# Altium integrated library Diodes - TVS.IntLib: 5379 symbols (part 105 of 122)
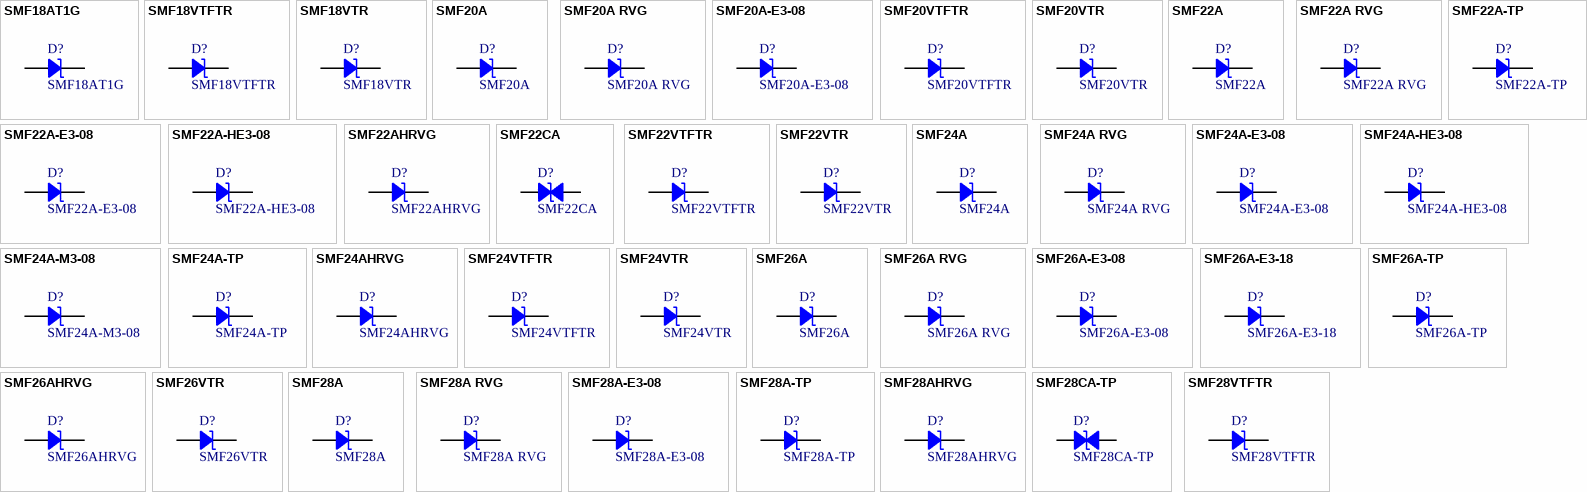
[diagram p238: symbols SMF18AT1G to SMF28VTFTR]

## SMF24A-E3-08
designator D?
TVS DIODE 24V 38.9V SMF; Manufacturer: Vishay Semiconductor Diodes Division; Capacitance @ Frequency: 244pF @ 1MHz; Current - Peak Pulse (10/1000µs): 5.1A; Power Line Protection: No; Power - Peak Pulse: 200W; Type: Zener; Unidirectional Channels: 1; Voltage - Breakdown (Min): 26.7V; Part Number: SMF24A-E3-08; Applications: General Purpose; ComponentLink1Description: Datasheet; ComponentLink1URL: http://www.vishay.com/docs/85881/smf5v0atosmf58a.pdf; ComponentLink2Description: DigiKey Link; ComponentLink2URL: http://digikey.com/product-detail/en/vishay-semiconductor-diodes-division/SMF24A-E3-08/SMF24A-E3-08CT-ND/1680633; LastUpdated: 9/2/2020 1:27:46 AM; Lifecycle Status: Active; Minimum Order: 1; Mounting Type: Surface Mount; Operating Temperature: -65°C ~ 175°C (TJ); Package / Case: DO-219AB; Packaging: TapeAndReel; PartId: 5546; Part Status: Active; Price: 0.10; Series: -; Supplier 1: DigiKey; Supplier Part Number 1: SMF24A-E3-08CT-ND; Supplier Device Package: SMF; Voltage - Clamping (Max) @ Ipp: 38.9V; Voltage - Reverse Standoff (Typ): 24V
footprint SMF DO-219AB
pins: 1, 2

## SMF24A-HE3-08
designator D?
TVS DIODE 24V 38.9V DO219AB; Manufacturer: Vishay Semiconductor Diodes Division; Capacitance @ Frequency: 244pF @ 1MHz; Current - Peak Pulse (10/1000µs): 5.1A; Power Line Protection: No; Power - Peak Pulse: 200W; Type: Zener; Unidirectional Channels: 1; Voltage - Breakdown (Min): 26.7V; Part Number: SMF24A-HE3-08; Applications: Automotive; ComponentLink1Description: Datasheet; ComponentLink1URL: http://www.vishay.com/docs/85881/smf5v0atosmf58a.pdf; ComponentLink2Description: DigiKey Link; ComponentLink2URL: http://digikey.com/product-detail/en/vishay-semiconductor-diodes-division/SMF24A-HE3-08/SMF24A-HE3-08GICT-ND/9601158; LastUpdated: 9/2/2020 1:27:45 AM; Lifecycle Status: Active; Minimum Order: 1; Mounting Type: Surface Mount; Operating Temperature: -65°C ~ 175°C (TJ); Package / Case: DO-219AB; Packaging: TapeAndReel; PartId: 5518; Part Status: Active; Price: 0.11; Series: Automotive, AEC-Q101; Supplier 1: DigiKey; Supplier Part Number 1: SMF24A-HE3-08GICT-ND; Supplier Device Package: DO-219AB (SMF); Voltage - Clamping (Max) @ Ipp: 38.9V; Voltage - Reverse Standoff (Typ): 24V
footprint SMF DO-219AB
pins: 1, 2

## SMF24A-M3-08
designator D?
TVS DIODE 24V 38.9V DO219AB; Manufacturer: Vishay Semiconductor Diodes Division; Capacitance @ Frequency: 244pF @ 1MHz; Current - Peak Pulse (10/1000µs): 5.1A; Power Line Protection: No; Power - Peak Pulse: 200W; Type: Zener; Unidirectional Channels: 1; Voltage - Breakdown (Min): 26.7V; Part Number: SMF24A-M3-08; Applications: General Purpose; ComponentLink1Description: Datasheet; ComponentLink1URL: http://www.vishay.com/docs/85881/smf5v0atosmf58a.pdf; ComponentLink2Description: DigiKey Link; ComponentLink2URL: http://digikey.com/product-detail/en/vishay-semiconductor-diodes-division/SMF24A-M3-08/SMF24A-M3-08GICT-ND/9601159; LastUpdated: 9/2/2020 1:27:45 AM; Lifecycle Status: Active; Minimum Order: 1; Mounting Type: Surface Mount; Operating Temperature: -65°C ~ 175°C (TJ); Package / Case: DO-219AB; Packaging: TapeAndReel; PartId: 5521; Part Status: Active; Price: 0.10; Series: -; Supplier 1: DigiKey; Supplier Part Number 1: SMF24A-M3-08GICT-ND; Supplier Device Package: SMF (DO-219AB); Voltage - Clamping (Max) @ Ipp: 38.9V; Voltage - Reverse Standoff (Typ): 24V
footprint SMF DO-219AB
pins: 1, 2

## SMF24A-TP
designator D?
TVS DIODE 24V 38.9V SOD123FL; Manufacturer: Micro Commercial Co; Current - Peak Pulse (10/1000µs): 5.1A; Power Line Protection: No; Power - Peak Pulse: 200W; Type: Zener; Unidirectional Channels: 1; Voltage - Breakdown (Min): 26.7V; Part Number: SMF24A-TP; Applications: General Purpose; ComponentLink1Description: Datasheet; ComponentLink1URL: https://www.mccsemi.com/pdf/Products/SMF5.0-170(SOD-123FL)-F.pdf; ComponentLink2Description: DigiKey Link; ComponentLink2URL: http://digikey.com/product-detail/en/micro-commercial-co/SMF24A-TP/SMF24A-TPMSCT-ND/5114019; LastUpdated: 9/2/2020 1:28:37 AM; Lifecycle Status: Active; Minimum Order: 1; Mounting Type: Surface Mount; Operating Temperature: -65°C ~ 175°C (TA); Package / Case: SOD-123F; Packaging: TapeAndReel; PartId: 10176; Part Status: Active; Price: 0.09; Series: -; Supplier 1: DigiKey; Supplier Part Number 1: SMF24A-TPMSCT-ND; Supplier Device Package: SOD-123FL; Voltage - Clamping (Max) @ Ipp: 38.9V; Voltage - Reverse Standoff (Typ): 24V
footprint SOD123F
pins: 1, 2

## SMF24AHRVG
designator D?
DIODE, TVS, UNIDIRECTIONAL; Manufacturer: Taiwan Semiconductor Corporation; Current - Peak Pulse (10/1000µs): 5.1A; Power Line Protection: No; Power - Peak Pulse: 200W; Type: Zener; Unidirectional Channels: 1; Voltage - Breakdown (Min): 26.7V; Voltage - Clamping (Max) @ Ipp: 38.9V; Voltage - Reverse Standoff (Typ): 24V; Part Number: SMF24AHRVG; Applications: Automotive; ComponentLink1Description: Datasheet; ComponentLink1URL: https://www.taiwansemi.com/products/datasheet/SMF5.0A%20SERIES_B1709.pdf; ComponentLink2Description: DigiKey Link; ComponentLink2URL: http://digikey.com/product-detail/en/taiwan-semiconductor-corporation/SMF24AHRVG/SMF24AHRVGCT-ND/8600422; LastUpdated: 9/2/2020 1:28:40 AM; Lifecycle Status: Active; Minimum Order: 1; Mounting Type: Surface Mount; Operating Temperature: -55°C ~ 175°C (TJ); Package / Case: SOD-123W; Packaging: TapeAndReel; PartId: 10300; Part Status: Active; Price: 0.09; Series: Automotive, AEC-Q101; Supplier 1: DigiKey; Supplier Part Number 1: SMF24AHRVGCT-ND; Supplier Device Package: SOD-123W
footprint SOD-123W
pins: 1, 2

## SMF24VTFTR
designator D?
SMF24VTF IS A TRANSIENT VOLTAGE; Manufacturer: Rohm Semiconductor; Current - Peak Pulse (10/1000µs): 5.1A; Power Line Protection: No; Power - Peak Pulse: 200W; Type: Zener; Unidirectional Channels: 1; Voltage - Breakdown (Min): 26.7V; Voltage - Clamping (Max) @ Ipp: 38.9V; Voltage - Reverse Standoff (Typ): 24V; Part Number: SMF24VTFTR; Applications: Automotive; ComponentLink1Description: Datasheet; ComponentLink1URL: https://www.rohm.com/datasheet/SMF24VTF/smf24vtftr-e; ComponentLink2Description: DigiKey Link; ComponentLink2URL: http://digikey.com/product-detail/en/rohm-semiconductor/SMF24VTFTR/SMF24VTFCT-ND/9748288; LastUpdated: 9/2/2020 1:28:36 AM; Lifecycle Status: Active; Minimum Order: 1; Mounting Type: Surface Mount; Operating Temperature: 150°C (TJ); Package / Case: SOD-123F; Packaging: TapeAndReel; PartId: 10042; Part Status: Active; Price: 0.11; Series: Automotive, AEC-Q101; Supplier 1: DigiKey; Supplier Part Number 1: SMF24VTFCT-ND; Supplier Device Package: PMDU
footprint SOD123F
pins: 1, 2

## SMF24VTR
designator D?
TRANSIENT VOLTAGE SUPPRESSOR - S; Manufacturer: Rohm Semiconductor; Current - Peak Pulse (10/1000µs): 5.1A; Power Line Protection: No; Power - Peak Pulse: 200W; Type: Zener; Unidirectional Channels: 1; Voltage - Breakdown (Min): 26.7V; Voltage - Clamping (Max) @ Ipp: 38.9V; Voltage - Reverse Standoff (Typ): 24V (Max); Part Number: SMF24VTR; Applications: General Purpose; ComponentLink1Description: Datasheet; ComponentLink1URL: https://www.rohm.com/datasheet/SMF33V/smf33vtr-e; ComponentLink2Description: DigiKey Link; ComponentLink2URL: http://digikey.com/product-detail/en/rohm-semiconductor/SMF24VTR/846-SMF24VCT-ND/10709507; LastUpdated: 9/2/2020 1:28:36 AM; Lifecycle Status: Active; Minimum Order: 1; Mounting Type: Surface Mount; Operating Temperature: 150°C (TJ); Package / Case: SOD-123F; Packaging: Unknown; PartId: 10065; Part Status: Active; Price: 0.06; Series: -; Supplier 1: DigiKey; Supplier Part Number 1: 846-SMF24VCT-ND; Supplier Device Package: PMDU
footprint SOD123F
pins: 1, 2

## SMF26A
designator D?
TVS DIODE 26V 42.1V SOD123F; Manufacturer: Littelfuse Inc.; Current - Peak Pulse (10/1000µs): 4.8A; Power Line Protection: No; Power - Peak Pulse: 200W; Type: Zener; Unidirectional Channels: 1; Voltage - Breakdown (Min): 28.9V; Part Number: SMF26A; Applications: General Purpose; ComponentLink1Description: Datasheet; ComponentLink1URL: https://www.littelfuse.com/~/media/electronics/datasheets/tvs_diodes/littelfuse_tvs_diode_smf_datasheet.pdf.pdf; ComponentLink2Description: DigiKey Link; ComponentLink2URL: http://digikey.com/product-detail/en/littelfuse-inc/SMF26A/F5824CT-ND/3672314; LastUpdated: 9/2/2020 1:28:37 AM; Lifecycle Status: Active; Minimum Order: 1; Mounting Type: Surface Mount; Operating Temperature: -55°C ~ 150°C (TJ); Package / Case: SOD-123F; Packaging: TapeAndReel; PartId: 10216; Part Status: Active; Price: 0.11; Series: SMF; Supplier 1: DigiKey; Supplier Part Number 1: F5824CT-ND; Supplier Device Package: SOD-123F; Voltage - Clamping (Max) @ Ipp: 42.1V; Voltage - Reverse Standoff (Typ): 26V
footprint SOD123F
pins: 1, 2

## SMF26A RVG
designator D?
DIODE, TVS, UNIDIRECTIONAL; Manufacturer: Taiwan Semiconductor Corporation; Current - Peak Pulse (10/1000µs): 4.8A; Power Line Protection: No; Power - Peak Pulse: 200W; Type: Zener; Unidirectional Channels: 1; Voltage - Breakdown (Min): 28.9V; Voltage - Clamping (Max) @ Ipp: 42.1V; Voltage - Reverse Standoff (Typ): 26V; Part Number: SMF26A RVG; Applications: General Purpose; ComponentLink1Description: Datasheet; ComponentLink1URL: https://www.taiwansemi.com/products/datasheet/SMF5.0A%20SERIES_B1709.pdf; ComponentLink2Description: DigiKey Link; ComponentLink2URL: http://digikey.com/product-detail/en/taiwan-semiconductor-corporation/SMF26A-RVG/SMF26ARVGCT-ND/8600423; LastUpdated: 9/2/2020 1:28:40 AM; Lifecycle Status: Active; Minimum Order: 1; Mounting Type: Surface Mount; Operating Temperature: -55°C ~ 175°C (TJ); Package / Case: SOD-123W; Packaging: TapeAndReel; PartId: 10315; Part Status: Active; Price: 0.08; Series: -; Supplier 1: DigiKey; Supplier Part Number 1: SMF26ARVGCT-ND; Supplier Device Package: SOD-123W
footprint SOD-123W
pins: 1, 2

## SMF26A-E3-08
designator D?
TVS DIODE 26V 42.1V DO219AB; Manufacturer: Vishay Semiconductor Diodes Division; Capacitance @ Frequency: 230pF @ 1MHz; Current - Peak Pulse (10/1000µs): 4.8A; Power Line Protection: No; Power - Peak Pulse: 200W; Type: Zener; Unidirectional Channels: 1; Voltage - Breakdown (Min): 28.9V; Part Number: SMF26A-E3-08; Applications: General Purpose; ComponentLink1Description: Datasheet; ComponentLink1URL: http://www.vishay.com/docs/85881/smf5v0atosmf58a.pdf; ComponentLink2Description: DigiKey Link; ComponentLink2URL: http://digikey.com/product-detail/en/vishay-semiconductor-diodes-division/SMF26A-E3-08/SMF26A-E3-08GICT-ND/5639177; LastUpdated: 9/2/2020 1:27:45 AM; Lifecycle Status: Active; Minimum Order: 1; Mounting Type: Surface Mount; Operating Temperature: -65°C ~ 175°C (TJ); Package / Case: DO-219AB; Packaging: TapeAndReel; PartId: 5512; Part Status: Active; Price: 0.10; Series: -; Supplier 1: DigiKey; Supplier Part Number 1: SMF26A-E3-08GICT-ND; Supplier Device Package: SMF; Voltage - Clamping (Max) @ Ipp: 42.1V; Voltage - Reverse Standoff (Typ): 26V
footprint SMF DO-219AB
pins: 1, 2

## SMF26A-E3-18
designator D?
TVS DIODE 26V 42.1V DO219AB; Manufacturer: Vishay Semiconductor Diodes Division; Capacitance @ Frequency: 230pF @ 1MHz; Current - Peak Pulse (10/1000µs): 4.8A; Power Line Protection: No; Power - Peak Pulse: 200W; Type: Zener; Unidirectional Channels: 1; Voltage - Breakdown (Min): 28.9V; Part Number: SMF26A-E3-18; Applications: General Purpose; ComponentLink1Description: Datasheet; ComponentLink1URL: http://www.vishay.com/docs/85881/smf5v0atosmf58a.pdf; ComponentLink2Description: DigiKey Link; ComponentLink2URL: http://digikey.com/product-detail/en/vishay-semiconductor-diodes-division/SMF26A-E3-18/SMF26A-E3-18GICT-ND/5639178; LastUpdated: 9/2/2020 1:27:46 AM; Lifecycle Status: Active; Minimum Order: 1; Mounting Type: Surface Mount; Operating Temperature: -65°C ~ 175°C (TJ); Package / Case: DO-219AB; Packaging: TapeAndReel; PartId: 5529; Part Status: Active; Price: 0.07; Series: -; Supplier 1: DigiKey; Supplier Part Number 1: SMF26A-E3-18GICT-ND; Supplier Device Package: SMF (DO-219AB); Voltage - Clamping (Max) @ Ipp: 42.1V; Voltage - Reverse Standoff (Typ): 26V
footprint SMF DO-219AB
pins: 1, 2

## SMF26A-TP
designator D?
TVS DIODE 26V 42.1V SOD123FL; Manufacturer: Micro Commercial Co; Current - Peak Pulse (10/1000µs): 4.8A; Power Line Protection: No; Power - Peak Pulse: 200W; Type: Zener; Unidirectional Channels: 1; Voltage - Breakdown (Min): 28.9V; Part Number: SMF26A-TP; Applications: General Purpose; ComponentLink1Description: Datasheet; ComponentLink1URL: https://www.mccsemi.com/pdf/Products/SMF5.0-170(SOD-123FL)-V2.pdf; ComponentLink2Description: DigiKey Link; ComponentLink2URL: http://digikey.com/product-detail/en/micro-commercial-co/SMF26A-TP/SMF26A-TPMSCT-ND/2268363; LastUpdated: 9/2/2020 1:28:37 AM; Lifecycle Status: Active; Minimum Order: 1; Mounting Type: Surface Mount; Operating Temperature: -65°C ~ 175°C (TA); Package / Case: SOD-123F; Packaging: TapeAndReel; PartId: 10181; Part Status: Active; Price: 0.09; Series: -; Supplier 1: DigiKey; Supplier Part Number 1: SMF26A-TPMSCT-ND; Supplier Device Package: SOD-123FL; Voltage - Clamping (Max) @ Ipp: 42.1V; Voltage - Reverse Standoff (Typ): 26V
footprint SOD123F
pins: 1, 2

## SMF26AHRVG
designator D?
DIODE, TVS, UNIDIRECTIONAL; Manufacturer: Taiwan Semiconductor Corporation; Current - Peak Pulse (10/1000µs): 4.8A; Power Line Protection: No; Power - Peak Pulse: 200W; Type: Zener; Unidirectional Channels: 1; Voltage - Breakdown (Min): 28.9V; Voltage - Clamping (Max) @ Ipp: 42.1V; Voltage - Reverse Standoff (Typ): 26V; Part Number: SMF26AHRVG; Applications: Automotive; ComponentLink1Description: Datasheet; ComponentLink1URL: https://www.taiwansemi.com/products/datasheet/SMF5.0A%20SERIES_B1709.pdf; ComponentLink2Description: DigiKey Link; ComponentLink2URL: http://digikey.com/product-detail/en/taiwan-semiconductor-corporation/SMF26AHRVG/SMF26AHRVGCT-ND/8600424; LastUpdated: 9/2/2020 1:28:40 AM; Lifecycle Status: Active; Minimum Order: 1; Mounting Type: Surface Mount; Operating Temperature: -55°C ~ 175°C (TJ); Package / Case: SOD-123W; Packaging: TapeAndReel; PartId: 10299; Part Status: Active; Price: 0.09; Series: Automotive, AEC-Q101; Supplier 1: DigiKey; Supplier Part Number 1: SMF26AHRVGCT-ND; Supplier Device Package: SOD-123W
footprint SOD-123W
pins: 1, 2

## SMF26VTR
designator D?
TRANSIENT VOLTAGE SUPPRESSOR - S; Manufacturer: Rohm Semiconductor; Current - Peak Pulse (10/1000µs): 4.8A; Power Line Protection: No; Power - Peak Pulse: 200W; Type: Zener; Unidirectional Channels: 1; Voltage - Breakdown (Min): 28.9V; Voltage - Clamping (Max) @ Ipp: 42.1V; Voltage - Reverse Standoff (Typ): 26V (Max); Part Number: SMF26VTR; Applications: General Purpose; ComponentLink1Description: Datasheet; ComponentLink1URL: https://www.rohm.com/datasheet/SMF5V0/smf5v0tr-e; ComponentLink2Description: DigiKey Link; ComponentLink2URL: http://digikey.com/product-detail/en/rohm-semiconductor/SMF26VTR/846-SMF26VCT-ND/10709513; LastUpdated: 9/2/2020 1:28:36 AM; Lifecycle Status: Active; Minimum Order: 1; Mounting Type: Surface Mount; Operating Temperature: 150°C (TJ); Package / Case: SOD-123F; Packaging: Unknown; PartId: 10063; Part Status: Active; Price: 0.06; Series: -; Supplier 1: DigiKey; Supplier Part Number 1: 846-SMF26VCT-ND; Supplier Device Package: PMDU
footprint SOD123F
pins: 1, 2

## SMF28A
designator D?
TVS DIODE 28V 45.4V SOD123F; Manufacturer: Littelfuse Inc.; Current - Peak Pulse (10/1000µs): 4.4A; Power Line Protection: No; Power - Peak Pulse: 200W; Type: Zener; Unidirectional Channels: 1; Voltage - Breakdown (Min): 31.1V; Part Number: SMF28A; Applications: General Purpose; ComponentLink1Description: Datasheet; ComponentLink1URL: https://www.littelfuse.com/~/media/electronics/datasheets/tvs_diodes/littelfuse_tvs_diode_smf_datasheet.pdf.pdf; ComponentLink2Description: DigiKey Link; ComponentLink2URL: http://digikey.com/product-detail/en/littelfuse-inc/SMF28A/F5825CT-ND/3672315; LastUpdated: 9/2/2020 1:28:36 AM; Lifecycle Status: Active; Minimum Order: 1; Mounting Type: Surface Mount; Operating Temperature: -55°C ~ 150°C (TJ); Package / Case: SOD-123F; Packaging: TapeAndReel; PartId: 10091; Part Status: Active; Price: 0.11; Series: SMF; Supplier 1: DigiKey; Supplier Part Number 1: F5825CT-ND; Supplier Device Package: SOD-123F; Voltage - Clamping (Max) @ Ipp: 45.4V; Voltage - Reverse Standoff (Typ): 28V
footprint SOD123F
pins: 1, 2

## SMF28A RVG
designator D?
DIODE, TVS, UNIDIRECTIONAL; Manufacturer: Taiwan Semiconductor Corporation; Current - Peak Pulse (10/1000µs): 4.4A; Power Line Protection: No; Power - Peak Pulse: 200W; Type: Zener; Unidirectional Channels: 1; Voltage - Breakdown (Min): 31.1V; Voltage - Clamping (Max) @ Ipp: 45.4V; Voltage - Reverse Standoff (Typ): 28V; Part Number: SMF28A RVG; Applications: General Purpose; ComponentLink1Description: Datasheet; ComponentLink1URL: https://www.taiwansemi.com/products/datasheet/SMF5.0A%20SERIES_B1709.pdf; ComponentLink2Description: DigiKey Link; ComponentLink2URL: http://digikey.com/product-detail/en/taiwan-semiconductor-corporation/SMF28A-RVG/SMF28ARVGCT-ND/8600425; LastUpdated: 9/2/2020 1:28:40 AM; Lifecycle Status: Active; Minimum Order: 1; Mounting Type: Surface Mount; Operating Temperature: -55°C ~ 175°C (TJ); Package / Case: SOD-123W; Packaging: TapeAndReel; PartId: 10345; Part Status: Active; Price: 0.08; Series: -; Supplier 1: DigiKey; Supplier Part Number 1: SMF28ARVGCT-ND; Supplier Device Package: SOD-123W
footprint SOD-123W
pins: 1, 2

## SMF28A-E3-08
designator D?
TVS DIODE 28V 45.4V DO219AB; Manufacturer: Vishay Semiconductor Diodes Division; Capacitance @ Frequency: 227pF @ 1MHz; Current - Peak Pulse (10/1000µs): 4.4A; Power Line Protection: No; Power - Peak Pulse: 200W; Type: Zener; Unidirectional Channels: 1; Voltage - Breakdown (Min): 31.1V; Part Number: SMF28A-E3-08; Applications: General Purpose; ComponentLink1Description: Datasheet; ComponentLink1URL: http://www.vishay.com/docs/85881/smf5v0atosmf58a.pdf; ComponentLink2Description: DigiKey Link; ComponentLink2URL: http://digikey.com/product-detail/en/vishay-semiconductor-diodes-division/SMF28A-E3-08/SMF28A-E3-08GICT-ND/5639179; LastUpdated: 9/2/2020 1:27:46 AM; Lifecycle Status: Active; Minimum Order: 1; Mounting Type: Surface Mount; Operating Temperature: -65°C ~ 175°C (TJ); Package / Case: DO-219AB; Packaging: TapeAndReel; PartId: 5538; Part Status: Active; Price: 0.10; Series: -; Supplier 1: DigiKey; Supplier Part Number 1: SMF28A-E3-08GICT-ND; Supplier Device Package: SMF; Voltage - Clamping (Max) @ Ipp: 45.4V; Voltage - Reverse Standoff (Typ): 28V
footprint SMF DO-219AB
pins: 1, 2

## SMF28A-TP
designator D?
TVS DIODE 28V 45.4V SOD123FL; Manufacturer: Micro Commercial Co; Current - Peak Pulse (10/1000µs): 4.4A; Power Line Protection: No; Power - Peak Pulse: 200W; Type: Zener; Unidirectional Channels: 1; Voltage - Breakdown (Min): 31.1V; Part Number: SMF28A-TP; Applications: General Purpose; ComponentLink1Description: Datasheet; ComponentLink1URL: https://www.mccsemi.com/pdf/Products/SMF5.0-170(SOD-123FL)-V2.pdf; ComponentLink2Description: DigiKey Link; ComponentLink2URL: http://digikey.com/product-detail/en/micro-commercial-co/SMF28A-TP/SMF28A-TPMSCT-ND/5114020; LastUpdated: 9/2/2020 1:28:37 AM; Lifecycle Status: Active; Minimum Order: 1; Mounting Type: Surface Mount; Operating Temperature: -65°C ~ 175°C (TA); Package / Case: SOD-123F; Packaging: TapeAndReel; PartId: 10173; Part Status: Active; Price: 0.09; Series: -; Supplier 1: DigiKey; Supplier Part Number 1: SMF28A-TPMSCT-ND; Supplier Device Package: SOD-123FL; Voltage - Clamping (Max) @ Ipp: 45.4V; Voltage - Reverse Standoff (Typ): 28V
footprint SOD123F
pins: 1, 2

## SMF28AHRVG
designator D?
DIODE, TVS, UNIDIRECTIONAL; Manufacturer: Taiwan Semiconductor Corporation; Current - Peak Pulse (10/1000µs): 4.4A; Power Line Protection: No; Power - Peak Pulse: 200W; Type: Zener; Unidirectional Channels: 1; Voltage - Breakdown (Min): 31.1V; Voltage - Clamping (Max) @ Ipp: 45.4V; Voltage - Reverse Standoff (Typ): 28V; Part Number: SMF28AHRVG; Applications: Automotive; ComponentLink1Description: Datasheet; ComponentLink1URL: https://www.taiwansemi.com/products/datasheet/SMF5.0A%20SERIES_B1709.pdf; ComponentLink2Description: DigiKey Link; ComponentLink2URL: http://digikey.com/product-detail/en/taiwan-semiconductor-corporation/SMF28AHRVG/SMF28AHRVGCT-ND/8600426; LastUpdated: 9/2/2020 1:28:40 AM; Lifecycle Status: Active; Minimum Order: 1; Mounting Type: Surface Mount; Operating Temperature: -55°C ~ 175°C (TJ); Package / Case: SOD-123W; Packaging: TapeAndReel; PartId: 10306; Part Status: Active; Price: 0.09; Series: Automotive, AEC-Q101; Supplier 1: DigiKey; Supplier Part Number 1: SMF28AHRVGCT-ND; Supplier Device Package: SOD-123W
footprint SOD-123W
pins: 1, 2

## SMF28CA-TP
designator D?
TVS DIODE 28V 45.4V SOD123FL; Manufacturer: Micro Commercial Co; Bidirectional Channels: 1; Current - Peak Pulse (10/1000µs): 4.4A; Power Line Protection: No; Power - Peak Pulse: 200W; Type: Zener; Voltage - Breakdown (Min): 31.1V; Part Number: SMF28CA-TP; Applications: General Purpose; ComponentLink1Description: Datasheet; ComponentLink1URL: https://www.mccsemi.com/pdf/Products/SMF5.0-170(SOD-123FL)-V2.pdf; ComponentLink2Description: DigiKey Link; ComponentLink2URL: http://digikey.com/product-detail/en/micro-commercial-co/SMF28CA-TP/SMF28CA-TPMSCT-ND/7681716; LastUpdated: 9/2/2020 1:28:38 AM; Lifecycle Status: Active; Minimum Order: 1; Mounting Type: Surface Mount; Operating Temperature: -65°C ~ 175°C (TA); Package / Case: SOD-123F; Packaging: TapeAndReel; PartId: 10254; Part Status: Active; Price: 0.09; Series: -; Supplier 1: DigiKey; Supplier Part Number 1: SMF28CA-TPMSCT-ND; Supplier Device Package: SOD-123FL; Voltage - Clamping (Max) @ Ipp: 45.4V; Voltage - Reverse Standoff (Typ): 28V
footprint SOD123F
pins: 1, 2

## SMF28VTFTR
designator D?
SMF28VTF IS A TRANSIENT VOLTAGE; Manufacturer: Rohm Semiconductor; Current - Peak Pulse (10/1000µs): 4.4A; Power Line Protection: No; Power - Peak Pulse: 200W; Type: Zener; Unidirectional Channels: 1; Voltage - Breakdown (Min): 31.1V; Voltage - Clamping (Max) @ Ipp: 45.4V; Voltage - Reverse Standoff (Typ): 28V; Part Number: SMF28VTFTR; Applications: Automotive; ComponentLink1Description: Datasheet; ComponentLink1URL: https://www.rohm.com/datasheet/SMF28VTF/smf28vtftr-e; ComponentLink2Description: DigiKey Link; ComponentLink2URL: http://digikey.com/product-detail/en/rohm-semiconductor/SMF28VTFTR/SMF28VTFCT-ND/9748290; LastUpdated: 9/2/2020 1:28:36 AM; Lifecycle Status: Active; Minimum Order: 1; Mounting Type: Surface Mount; Operating Temperature: 150°C (TJ); Package / Case: SOD-123F; Packaging: TapeAndReel; PartId: 10140; Part Status: Active; Price: 0.11; Series: Automotive, AEC-Q101; Supplier 1: DigiKey; Supplier Part Number 1: SMF28VTFCT-ND; Supplier Device Package: PMDU
footprint SOD123F
pins: 1, 2

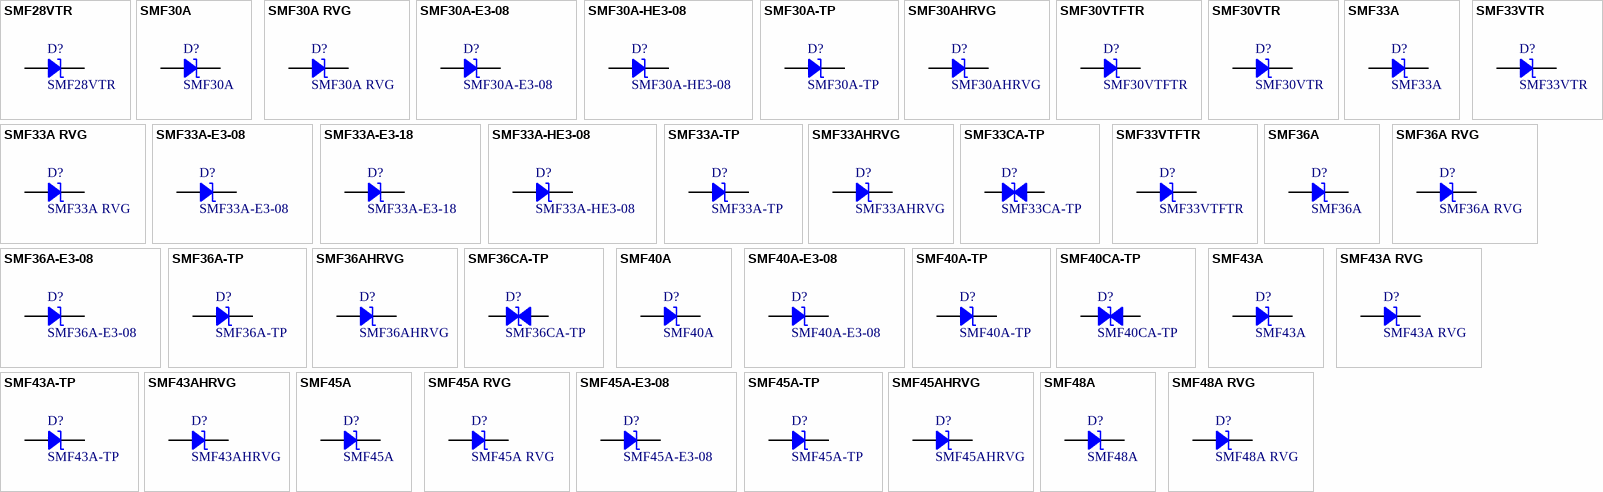
[diagram p116: symbols SMF28VTR to SMF48A RVG]

## SMF28VTR
designator D?
TRANSIENT VOLTAGE SUPPRESSOR - S; Manufacturer: Rohm Semiconductor; Current - Peak Pulse (10/1000µs): 4.4A; Power Line Protection: No; Power - Peak Pulse: 200W; Type: Zener; Unidirectional Channels: 1; Voltage - Breakdown (Min): 31.1V; Voltage - Clamping (Max) @ Ipp: 45.4V; Voltage - Reverse Standoff (Typ): 28V (Max); Part Number: SMF28VTR; Applications: General Purpose; ComponentLink1Description: Datasheet; ComponentLink1URL: https://www.rohm.com/datasheet/SMF6V0/smf6v0tr-e; ComponentLink2Description: DigiKey Link; ComponentLink2URL: http://digikey.com/product-detail/en/rohm-semiconductor/SMF28VTR/846-SMF28VCT-ND/10709597; LastUpdated: 9/2/2020 1:28:36 AM; Lifecycle Status: Active; Minimum Order: 1; Mounting Type: Surface Mount; Operating Temperature: 150°C (TJ); Package / Case: SOD-123F; Packaging: Unknown; PartId: 10051; Part Status: Active; Price: 0.06; Series: -; Supplier 1: DigiKey; Supplier Part Number 1: 846-SMF28VCT-ND; Supplier Device Package: PMDU
footprint SOD123F
pins: 1, 2

## SMF30A
designator D?
TVS DIODE 30V 48.4V SOD123F; Manufacturer: Littelfuse Inc.; Current - Peak Pulse (10/1000µs): 4.1A; Power Line Protection: No; Power - Peak Pulse: 200W; Type: Zener; Unidirectional Channels: 1; Voltage - Breakdown (Min): 33.3V; Part Number: SMF30A; Applications: General Purpose; ComponentLink1Description: Datasheet; ComponentLink1URL: https://www.littelfuse.com/~/media/electronics/datasheets/tvs_diodes/littelfuse_tvs_diode_smf_datasheet.pdf.pdf; ComponentLink2Description: DigiKey Link; ComponentLink2URL: http://digikey.com/product-detail/en/littelfuse-inc/SMF30A/F5826CT-ND/3672316; LastUpdated: 9/2/2020 1:28:36 AM; Lifecycle Status: Active; Minimum Order: 1; Mounting Type: Surface Mount; Operating Temperature: -55°C ~ 150°C (TJ); Package / Case: SOD-123F; Packaging: TapeAndReel; PartId: 10093; Part Status: Active; Price: 0.11; Series: SMF; Supplier 1: DigiKey; Supplier Part Number 1: F5826CT-ND; Supplier Device Package: SOD-123F; Voltage - Clamping (Max) @ Ipp: 48.4V; Voltage - Reverse Standoff (Typ): 30V
footprint SOD123F
pins: 1, 2

## SMF30A RVG
designator D?
DIODE, TVS, UNIDIRECTIONAL; Manufacturer: Taiwan Semiconductor Corporation; Current - Peak Pulse (10/1000µs): 4.1A; Power Line Protection: No; Power - Peak Pulse: 200W; Type: Zener; Unidirectional Channels: 1; Voltage - Breakdown (Min): 33.3V; Voltage - Clamping (Max) @ Ipp: 48.4V; Voltage - Reverse Standoff (Typ): 30V; Part Number: SMF30A RVG; Applications: General Purpose; ComponentLink1Description: Datasheet; ComponentLink1URL: https://www.taiwansemi.com/products/datasheet/SMF5.0A%20SERIES_B1709.pdf; ComponentLink2Description: DigiKey Link; ComponentLink2URL: http://digikey.com/product-detail/en/taiwan-semiconductor-corporation/SMF30A-RVG/SMF30ARVGCT-ND/8600427; LastUpdated: 9/2/2020 1:28:40 AM; Lifecycle Status: Active; Minimum Order: 1; Mounting Type: Surface Mount; Operating Temperature: -55°C ~ 175°C (TJ); Package / Case: SOD-123W; Packaging: TapeAndReel; PartId: 10278; Part Status: Active; Price: 0.08; Series: -; Supplier 1: DigiKey; Supplier Part Number 1: SMF30ARVGCT-ND; Supplier Device Package: SOD-123W
footprint SOD-123W
pins: 1, 2

## SMF30A-E3-08
designator D?
TVS DIODE 30V 48.4V SMF; Manufacturer: Vishay Semiconductor Diodes Division; Capacitance @ Frequency: 207pF @ 1MHz; Current - Peak Pulse (10/1000µs): 4.1A; Power Line Protection: No; Power - Peak Pulse: 200W; Type: Zener; Unidirectional Channels: 1; Voltage - Breakdown (Min): 33.3V; Part Number: SMF30A-E3-08; Applications: General Purpose; ComponentLink1Description: Datasheet; ComponentLink1URL: http://www.vishay.com/docs/85881/smf5v0atosmf58a.pdf; ComponentLink2Description: DigiKey Link; ComponentLink2URL: http://digikey.com/product-detail/en/vishay-semiconductor-diodes-division/SMF30A-E3-08/SMF30A-E3-08GICT-ND/4914430; LastUpdated: 9/2/2020 1:27:45 AM; Lifecycle Status: Active; Minimum Order: 1; Mounting Type: Surface Mount; Operating Temperature: -65°C ~ 175°C (TJ); Package / Case: DO-219AB; Packaging: TapeAndReel; PartId: 5503; Part Status: Active; Price: 0.10; Series: -; Supplier 1: DigiKey; Supplier Part Number 1: SMF30A-E3-08GICT-ND; Supplier Device Package: SMF; Voltage - Clamping (Max) @ Ipp: 48.4V; Voltage - Reverse Standoff (Typ): 30V
footprint SMF DO-219AB
pins: 1, 2

## SMF30A-HE3-08
designator D?
TVS DIODE 30V 48.4V DO219AB; Manufacturer: Vishay Semiconductor Diodes Division; Capacitance @ Frequency: 207pF @ 1MHz; Current - Peak Pulse (10/1000µs): 4.1A; Power Line Protection: No; Power - Peak Pulse: 200W; Type: Zener; Unidirectional Channels: 1; Voltage - Breakdown (Min): 33.3V; Part Number: SMF30A-HE3-08; Applications: Automotive; ComponentLink1Description: Datasheet; ComponentLink1URL: http://www.vishay.com/docs/85881/smf5v0atosmf58a.pdf; ComponentLink2Description: DigiKey Link; ComponentLink2URL: http://digikey.com/product-detail/en/vishay-semiconductor-diodes-division/SMF30A-HE3-08/SMF30A-HE3-08GICT-ND/8565230; LastUpdated: 9/2/2020 1:27:45 AM; Lifecycle Status: Active; Minimum Order: 1; Mounting Type: Surface Mount; Operating Temperature: -65°C ~ 175°C (TJ); Package / Case: DO-219AB; Packaging: TapeAndReel; PartId: 5519; Part Status: Active; Price: 0.11; Series: Automotive, AEC-Q101; Supplier 1: DigiKey; Supplier Part Number 1: SMF30A-HE3-08GICT-ND; Supplier Device Package: DO-219AB (SMF); Voltage - Clamping (Max) @ Ipp: 48.4V; Voltage - Reverse Standoff (Typ): 30V
footprint SMF DO-219AB
pins: 1, 2

## SMF30A-TP
designator D?
TVS DIODE 30V 48.4V SOD123FL; Manufacturer: Micro Commercial Co; Current - Peak Pulse (10/1000µs): 4.1A; Power Line Protection: No; Power - Peak Pulse: 200W; Type: Zener; Unidirectional Channels: 1; Voltage - Breakdown (Min): 33.3V; Part Number: SMF30A-TP; Applications: General Purpose; ComponentLink1Description: Datasheet; ComponentLink1URL: https://www.mccsemi.com/pdf/Products/SMF5.0-170(SOD-123FL)-V2.pdf; ComponentLink2Description: DigiKey Link; ComponentLink2URL: http://digikey.com/product-detail/en/micro-commercial-co/SMF30A-TP/SMF30A-TPMSCT-ND/5114021; LastUpdated: 9/2/2020 1:28:36 AM; Lifecycle Status: Active; Minimum Order: 1; Mounting Type: Surface Mount; Operating Temperature: -65°C ~ 175°C (TA); Package / Case: SOD-123F; Packaging: TapeAndReel; PartId: 10112; Part Status: Active; Price: 0.09; Series: -; Supplier 1: DigiKey; Supplier Part Number 1: SMF30A-TPMSCT-ND; Supplier Device Package: SOD-123FL; Voltage - Clamping (Max) @ Ipp: 48.4V; Voltage - Reverse Standoff (Typ): 30V
footprint SOD123F
pins: 1, 2

## SMF30AHRVG
designator D?
DIODE, TVS, UNIDIRECTIONAL; Manufacturer: Taiwan Semiconductor Corporation; Current - Peak Pulse (10/1000µs): 4.1A; Power Line Protection: No; Power - Peak Pulse: 200W; Type: Zener; Unidirectional Channels: 1; Voltage - Breakdown (Min): 33.3V; Voltage - Clamping (Max) @ Ipp: 48.4V; Voltage - Reverse Standoff (Typ): 30V; Part Number: SMF30AHRVG; Applications: Automotive; ComponentLink1Description: Datasheet; ComponentLink1URL: https://www.taiwansemi.com/products/datasheet/SMF5.0A%20SERIES_B1709.pdf; ComponentLink2Description: DigiKey Link; ComponentLink2URL: http://digikey.com/product-detail/en/taiwan-semiconductor-corporation/SMF30AHRVG/SMF30AHRVGCT-ND/8600428; LastUpdated: 9/2/2020 1:28:40 AM; Lifecycle Status: Active; Minimum Order: 1; Mounting Type: Surface Mount; Operating Temperature: -55°C ~ 175°C (TJ); Package / Case: SOD-123W; Packaging: TapeAndReel; PartId: 10351; Part Status: Active; Price: 0.09; Series: Automotive, AEC-Q101; Supplier 1: DigiKey; Supplier Part Number 1: SMF30AHRVGCT-ND; Supplier Device Package: SOD-123W
footprint SOD-123W
pins: 1, 2

## SMF30VTFTR
designator D?
SMF30VTF IS A TRANSIENT VOLTAGE; Manufacturer: Rohm Semiconductor; Current - Peak Pulse (10/1000µs): 4.1A; Power Line Protection: No; Power - Peak Pulse: 200W; Type: Zener; Unidirectional Channels: 1; Voltage - Breakdown (Min): 33.3V; Voltage - Clamping (Max) @ Ipp: 48.4V; Voltage - Reverse Standoff (Typ): 30V; Part Number: SMF30VTFTR; Applications: Automotive; ComponentLink1Description: Datasheet; ComponentLink1URL: https://www.rohm.com/datasheet/SMF30VTF/smf30vtftr-e; ComponentLink2Description: DigiKey Link; ComponentLink2URL: http://digikey.com/product-detail/en/rohm-semiconductor/SMF30VTFTR/SMF30VTFCT-ND/9748291; LastUpdated: 9/2/2020 1:28:36 AM; Lifecycle Status: Active; Minimum Order: 1; Mounting Type: Surface Mount; Operating Temperature: 150°C (TJ); Package / Case: SOD-123F; Packaging: TapeAndReel; PartId: 10041; Part Status: Active; Price: 0.11; Series: Automotive, AEC-Q101; Supplier 1: DigiKey; Supplier Part Number 1: SMF30VTFCT-ND; Supplier Device Package: PMDU
footprint SOD123F
pins: 1, 2

## SMF30VTR
designator D?
TRANSIENT VOLTAGE SUPPRESSOR - S; Manufacturer: Rohm Semiconductor; Current - Peak Pulse (10/1000µs): 4.1A; Power Line Protection: No; Power - Peak Pulse: 200W; Type: Zener; Unidirectional Channels: 1; Voltage - Breakdown (Min): 33.3V; Voltage - Clamping (Max) @ Ipp: 48.4V; Voltage - Reverse Standoff (Typ): 30V (Max); Part Number: SMF30VTR; Applications: General Purpose; ComponentLink1Description: Datasheet; ComponentLink1URL: https://www.rohm.com/datasheet/SMF6V5/smf6v5tr-e; ComponentLink2Description: DigiKey Link; ComponentLink2URL: http://digikey.com/product-detail/en/rohm-semiconductor/SMF30VTR/846-SMF30VCT-ND/10709487; LastUpdated: 9/2/2020 1:28:36 AM; Lifecycle Status: Active; Minimum Order: 1; Mounting Type: Surface Mount; Operating Temperature: 150°C (TJ); Package / Case: SOD-123F; Packaging: Unknown; PartId: 10067; Part Status: Active; Price: 0.06; Series: -; Supplier 1: DigiKey; Supplier Part Number 1: 846-SMF30VCT-ND; Supplier Device Package: PMDU
footprint SOD123F
pins: 1, 2

## SMF33A
designator D?
TVS DIODE 33V 53.3V SOD123F; Manufacturer: Littelfuse Inc.; Current - Peak Pulse (10/1000µs): 3.8A; Power Line Protection: No; Power - Peak Pulse: 200W; Type: Zener; Unidirectional Channels: 1; Voltage - Breakdown (Min): 36.7V; Part Number: SMF33A; Applications: General Purpose; ComponentLink1Description: Datasheet; ComponentLink1URL: https://www.littelfuse.com/~/media/electronics/datasheets/tvs_diodes/littelfuse_tvs_diode_smf_datasheet.pdf.pdf; ComponentLink2Description: DigiKey Link; ComponentLink2URL: http://digikey.com/product-detail/en/littelfuse-inc/SMF33A/F5827CT-ND/3672317; LastUpdated: 9/2/2020 1:28:37 AM; Lifecycle Status: Active; Minimum Order: 1; Mounting Type: Surface Mount; Operating Temperature: -55°C ~ 150°C (TJ); Package / Case: SOD-123F; Packaging: TapeAndReel; PartId: 10220; Part Status: Active; Price: 0.11; Series: SMF; Supplier 1: DigiKey; Supplier Part Number 1: F5827CT-ND; Supplier Device Package: SOD-123F; Voltage - Clamping (Max) @ Ipp: 53.3V; Voltage - Reverse Standoff (Typ): 33V
footprint SOD123F
pins: 1, 2

## SMF33A RVG
designator D?
DIODE, TVS, UNIDIRECTIONAL; Manufacturer: Taiwan Semiconductor Corporation; Current - Peak Pulse (10/1000µs): 3.8A; Power Line Protection: No; Power - Peak Pulse: 200W; Type: Zener; Unidirectional Channels: 1; Voltage - Breakdown (Min): 36.7V; Voltage - Clamping (Max) @ Ipp: 53.3V; Voltage - Reverse Standoff (Typ): 33V; Part Number: SMF33A RVG; Applications: General Purpose; ComponentLink1Description: Datasheet; ComponentLink1URL: https://www.taiwansemi.com/products/datasheet/SMF5.0A%20SERIES_B1709.pdf; ComponentLink2Description: DigiKey Link; ComponentLink2URL: http://digikey.com/product-detail/en/taiwan-semiconductor-corporation/SMF33A-RVG/SMF33ARVGCT-ND/8600429; LastUpdated: 9/2/2020 1:28:40 AM; Lifecycle Status: Active; Minimum Order: 1; Mounting Type: Surface Mount; Operating Temperature: -55°C ~ 175°C (TJ); Package / Case: SOD-123W; Packaging: TapeAndReel; PartId: 10344; Part Status: Active; Price: 0.08; Series: -; Supplier 1: DigiKey; Supplier Part Number 1: SMF33ARVGCT-ND; Supplier Device Package: SOD-123W
footprint SOD-123W
pins: 1, 2

## SMF33A-E3-08
designator D?
TVS DIODE 33V 53.3V SMF; Manufacturer: Vishay Semiconductor Diodes Division; Capacitance @ Frequency: 198pF @ 1MHz; Current - Peak Pulse (10/1000µs): 3.8A; Power Line Protection: No; Power - Peak Pulse: 200W; Type: Zener; Unidirectional Channels: 1; Voltage - Breakdown (Min): 36.7V; Part Number: SMF33A-E3-08; Applications: General Purpose; ComponentLink1Description: Datasheet; ComponentLink1URL: http://www.vishay.com/docs/85881/smf5v0atosmf58a.pdf; ComponentLink2Description: DigiKey Link; ComponentLink2URL: http://digikey.com/product-detail/en/vishay-semiconductor-diodes-division/SMF33A-E3-08/SMF33A-E3-08CT-ND/1680634; LastUpdated: 9/2/2020 1:27:45 AM; Lifecycle Status: Active; Minimum Order: 1; Mounting Type: Surface Mount; Operating Temperature: -65°C ~ 175°C (TJ); Package / Case: DO-219AB; Packaging: TapeAndReel; PartId: 5501; Part Status: Active; Price: 0.10; Series: -; Supplier 1: DigiKey; Supplier Part Number 1: SMF33A-E3-08CT-ND; Supplier Device Package: SMF; Voltage - Clamping (Max) @ Ipp: 53.3V; Voltage - Reverse Standoff (Typ): 33V
footprint SMF DO-219AB
pins: 1, 2

## SMF33A-E3-18
designator D?
TVS DIODE 33V 53.3V DO219AB; Manufacturer: Vishay Semiconductor Diodes Division; Capacitance @ Frequency: 198pF @ 1MHz; Current - Peak Pulse (10/1000µs): 3.8A; Power Line Protection: No; Power - Peak Pulse: 200W; Type: Zener; Unidirectional Channels: 1; Voltage - Breakdown (Min): 36.7V; Part Number: SMF33A-E3-18; Applications: General Purpose; ComponentLink1Description: Datasheet; ComponentLink1URL: http://www.vishay.com/docs/85881/smf5v0atosmf58a.pdf; ComponentLink2Description: DigiKey Link; ComponentLink2URL: http://digikey.com/product-detail/en/vishay-semiconductor-diodes-division/SMF33A-E3-18/SMF33A-E3-18GICT-ND/5639180; LastUpdated: 9/2/2020 1:27:45 AM; Lifecycle Status: Active; Minimum Order: 1; Mounting Type: Surface Mount; Operating Temperature: -65°C ~ 175°C (TJ); Package / Case: DO-219AB; Packaging: TapeAndReel; PartId: 5514; Part Status: Active; Price: 0.09; Series: -; Supplier 1: DigiKey; Supplier Part Number 1: SMF33A-E3-18GICT-ND; Supplier Device Package: SMF (DO-219AB); Voltage - Clamping (Max) @ Ipp: 53.3V; Voltage - Reverse Standoff (Typ): 33V
footprint SMF DO-219AB
pins: 1, 2

## SMF33A-HE3-08
designator D?
TVS DIODE 33V 53.3V DO219AB; Manufacturer: Vishay Semiconductor Diodes Division; Capacitance @ Frequency: 198pF @ 1MHz; Current - Peak Pulse (10/1000µs): 3.8A; Power Line Protection: No; Power - Peak Pulse: 200W; Type: Zener; Unidirectional Channels: 1; Voltage - Breakdown (Min): 36.7V; Part Number: SMF33A-HE3-08; Applications: Automotive; ComponentLink1Description: Datasheet; ComponentLink1URL: http://www.vishay.com/docs/85881/smf5v0atosmf58a.pdf; ComponentLink2Description: DigiKey Link; ComponentLink2URL: http://digikey.com/product-detail/en/vishay-semiconductor-diodes-division/SMF33A-HE3-08/SMF33A-HE3-08GICT-ND/8565231; LastUpdated: 9/2/2020 1:27:45 AM; Lifecycle Status: Active; Minimum Order: 1; Mounting Type: Surface Mount; Operating Temperature: -65°C ~ 175°C (TJ); Package / Case: DO-219AB; Packaging: TapeAndReel; PartId: 5517; Part Status: Active; Price: 0.11; Series: Automotive, AEC-Q101; Supplier 1: DigiKey; Supplier Part Number 1: SMF33A-HE3-08GICT-ND; Supplier Device Package: DO-219AB (SMF); Voltage - Clamping (Max) @ Ipp: 53.3V; Voltage - Reverse Standoff (Typ): 33V
footprint SMF DO-219AB
pins: 1, 2

## SMF33A-TP
designator D?
TVS DIODE 33V 53.3V SOD123FL; Manufacturer: Micro Commercial Co; Current - Peak Pulse (10/1000µs): 3.8A; Power Line Protection: No; Power - Peak Pulse: 200W; Type: Zener; Unidirectional Channels: 1; Voltage - Breakdown (Min): 36.7V; Part Number: SMF33A-TP; Applications: General Purpose; ComponentLink1Description: Datasheet; ComponentLink1URL: https://www.mccsemi.com/pdf/Products/SMF5.0-170(SOD-123FL)-F.pdf; ComponentLink2Description: DigiKey Link; ComponentLink2URL: http://digikey.com/product-detail/en/micro-commercial-co/SMF33A-TP/SMF33A-TPMSCT-ND/2404597; LastUpdated: 9/2/2020 1:28:36 AM; Lifecycle Status: Active; Minimum Order: 1; Mounting Type: Surface Mount; Operating Temperature: -65°C ~ 175°C (TA); Package / Case: SOD-123F; Packaging: TapeAndReel; PartId: 10104; Part Status: Active; Price: 0.11; Series: -; Supplier 1: DigiKey; Supplier Part Number 1: SMF33A-TPMSCT-ND; Supplier Device Package: SOD-123FL; Voltage - Clamping (Max) @ Ipp: 53.3V; Voltage - Reverse Standoff (Typ): 33V
footprint SOD123F
pins: 1, 2

## SMF33AHRVG
designator D?
DIODE, TVS, UNIDIRECTIONAL; Manufacturer: Taiwan Semiconductor Corporation; Current - Peak Pulse (10/1000µs): 3.8A; Power Line Protection: No; Power - Peak Pulse: 200W; Type: Zener; Unidirectional Channels: 1; Voltage - Breakdown (Min): 36.7V; Voltage - Clamping (Max) @ Ipp: 53.3V; Voltage - Reverse Standoff (Typ): 33V; Part Number: SMF33AHRVG; Applications: Automotive; ComponentLink1Description: Datasheet; ComponentLink1URL: https://www.taiwansemi.com/products/datasheet/SMF5.0A%20SERIES_B1709.pdf; ComponentLink2Description: DigiKey Link; ComponentLink2URL: http://digikey.com/product-detail/en/taiwan-semiconductor-corporation/SMF33AHRVG/SMF33AHRVGCT-ND/8600430; LastUpdated: 9/2/2020 1:28:40 AM; Lifecycle Status: Active; Minimum Order: 1; Mounting Type: Surface Mount; Operating Temperature: -55°C ~ 175°C (TJ); Package / Case: SOD-123W; Packaging: TapeAndReel; PartId: 10298; Part Status: Active; Price: 0.09; Series: Automotive, AEC-Q101; Supplier 1: DigiKey; Supplier Part Number 1: SMF33AHRVGCT-ND; Supplier Device Package: SOD-123W
footprint SOD-123W
pins: 1, 2

## SMF33CA-TP
designator D?
TVS DIODE 33V 53.3V SOD123FL; Manufacturer: Micro Commercial Co; Bidirectional Channels: 1; Current - Peak Pulse (10/1000µs): 3.8A; Power Line Protection: No; Power - Peak Pulse: 200W; Type: Zener; Voltage - Breakdown (Min): 36.7V; Part Number: SMF33CA-TP; Applications: General Purpose; ComponentLink1Description: Datasheet; ComponentLink1URL: https://www.mccsemi.com/pdf/Products/SMF5.0-170(SOD-123FL)-V2.pdf; ComponentLink2Description: DigiKey Link; ComponentLink2URL: http://digikey.com/product-detail/en/micro-commercial-co/SMF33CA-TP/SMF33CA-TPMSCT-ND/10054442; LastUpdated: 9/2/2020 1:28:38 AM; Lifecycle Status: Active; Minimum Order: 1; Mounting Type: Surface Mount; Operating Temperature: -65°C ~ 175°C (TA); Package / Case: SOD-123F; Packaging: TapeAndReel; PartId: 10253; Part Status: Active; Price: 0.09; Series: -; Supplier 1: DigiKey; Supplier Part Number 1: SMF33CA-TPMSCT-ND; Supplier Device Package: SOD-123FL; Voltage - Clamping (Max) @ Ipp: 53.3V; Voltage - Reverse Standoff (Typ): 33V
footprint SOD123F
pins: 1, 2

## SMF33VTFTR
designator D?
SMF33VTF IS A TRANSIENT VOLTAGE; Manufacturer: Rohm Semiconductor; Current - Peak Pulse (10/1000µs): 3.8A; Power Line Protection: No; Power - Peak Pulse: 200W; Type: Zener; Unidirectional Channels: 1; Voltage - Breakdown (Min): 36.7V; Voltage - Clamping (Max) @ Ipp: 53.3V; Voltage - Reverse Standoff (Typ): 33V; Part Number: SMF33VTFTR; Applications: Automotive; ComponentLink1Description: Datasheet; ComponentLink1URL: https://www.rohm.com/datasheet/SMF33VTF/smf33vtftr-e; ComponentLink2Description: DigiKey Link; ComponentLink2URL: http://digikey.com/product-detail/en/rohm-semiconductor/SMF33VTFTR/SMF33VTFCT-ND/9748292; LastUpdated: 9/2/2020 1:28:36 AM; Lifecycle Status: Active; Minimum Order: 1; Mounting Type: Surface Mount; Operating Temperature: 150°C (TJ); Package / Case: SOD-123F; Packaging: TapeAndReel; PartId: 10126; Part Status: Active; Price: 0.11; Series: Automotive, AEC-Q101; Supplier 1: DigiKey; Supplier Part Number 1: SMF33VTFCT-ND; Supplier Device Package: PMDU
footprint SOD123F
pins: 1, 2

## SMF33VTR
designator D?
TRANSIENT VOLTAGE SUPPRESSOR - S; Manufacturer: Rohm Semiconductor; Current - Peak Pulse (10/1000µs): 3.8A; Power Line Protection: No; Power - Peak Pulse: 200W; Type: Zener; Unidirectional Channels: 1; Voltage - Breakdown (Min): 36.7V; Voltage - Clamping (Max) @ Ipp: 53.3V; Voltage - Reverse Standoff (Typ): 33V (Max); Part Number: SMF33VTR; Applications: General Purpose; ComponentLink1Description: Datasheet; ComponentLink1URL: https://www.rohm.com/datasheet/SMF7V0/smf7v0tr-e; ComponentLink2Description: DigiKey Link; ComponentLink2URL: http://digikey.com/product-detail/en/rohm-semiconductor/SMF33VTR/846-SMF33VCT-ND/10709539; LastUpdated: 9/2/2020 1:28:36 AM; Lifecycle Status: Active; Minimum Order: 1; Mounting Type: Surface Mount; Operating Temperature: 150°C (TJ); Package / Case: SOD-123F; Packaging: Unknown; PartId: 10057; Part Status: Active; Price: 0.06; Series: -; Supplier 1: DigiKey; Supplier Part Number 1: 846-SMF33VCT-ND; Supplier Device Package: PMDU
footprint SOD123F
pins: 1, 2

## SMF36A
designator D?
TVS DIODE 36V 58.1V SOD123F; Manufacturer: Littelfuse Inc.; Current - Peak Pulse (10/1000µs): 3.4A; Power Line Protection: No; Power - Peak Pulse: 200W; Type: Zener; Unidirectional Channels: 1; Voltage - Breakdown (Min): 40V; Part Number: SMF36A; Applications: General Purpose; ComponentLink1Description: Datasheet; ComponentLink1URL: https://www.littelfuse.com/~/media/electronics/datasheets/tvs_diodes/littelfuse_tvs_diode_smf_datasheet.pdf.pdf; ComponentLink2Description: DigiKey Link; ComponentLink2URL: http://digikey.com/product-detail/en/littelfuse-inc/SMF36A/F5828CT-ND/3672318; LastUpdated: 9/2/2020 1:28:37 AM; Lifecycle Status: Active; Minimum Order: 1; Mounting Type: Surface Mount; Operating Temperature: -55°C ~ 150°C (TJ); Package / Case: SOD-123F; Packaging: TapeAndReel; PartId: 10218; Part Status: Active; Price: 0.11; Series: SMF; Supplier 1: DigiKey; Supplier Part Number 1: F5828CT-ND; Supplier Device Package: SOD-123F; Voltage - Clamping (Max) @ Ipp: 58.1V; Voltage - Reverse Standoff (Typ): 36V
footprint SOD123F
pins: 1, 2

## SMF36A RVG
designator D?
DIODE, TVS, UNIDIRECTIONAL; Manufacturer: Taiwan Semiconductor Corporation; Current - Peak Pulse (10/1000µs): 3.4A; Power Line Protection: No; Power - Peak Pulse: 200W; Type: Zener; Unidirectional Channels: 1; Voltage - Breakdown (Min): 40V; Voltage - Clamping (Max) @ Ipp: 58.1V; Voltage - Reverse Standoff (Typ): 36V; Part Number: SMF36A RVG; Applications: General Purpose; ComponentLink1Description: Datasheet; ComponentLink1URL: https://www.taiwansemi.com/products/datasheet/SMF5.0A%20SERIES_B1709.pdf; ComponentLink2Description: DigiKey Link; ComponentLink2URL: http://digikey.com/product-detail/en/taiwan-semiconductor-corporation/SMF36A-RVG/SMF36ARVGCT-ND/8600431; LastUpdated: 9/2/2020 1:28:40 AM; Lifecycle Status: Active; Minimum Order: 1; Mounting Type: Surface Mount; Operating Temperature: -55°C ~ 175°C (TJ); Package / Case: SOD-123W; Packaging: TapeAndReel; PartId: 10343; Part Status: Active; Price: 0.08; Series: -; Supplier 1: DigiKey; Supplier Part Number 1: SMF36ARVGCT-ND; Supplier Device Package: SOD-123W
footprint SOD-123W
pins: 1, 2

## SMF36A-E3-08
designator D?
TVS DIODE 36V 58.1V SMF; Manufacturer: Vishay Semiconductor Diodes Division; Capacitance @ Frequency: 178pF @ 1MHz; Current - Peak Pulse (10/1000µs): 3.4A; Power Line Protection: No; Power - Peak Pulse: 200W; Type: Zener; Unidirectional Channels: 1; Voltage - Breakdown (Min): 40V; Part Number: SMF36A-E3-08; Applications: General Purpose; ComponentLink1Description: Datasheet; ComponentLink1URL: http://www.vishay.com/docs/85881/smf5v0atosmf58a.pdf; ComponentLink2Description: DigiKey Link; ComponentLink2URL: http://digikey.com/product-detail/en/vishay-semiconductor-diodes-division/SMF36A-E3-08/SMF36A-E3-08CT-ND/1680635; LastUpdated: 9/2/2020 1:27:46 AM; Lifecycle Status: Active; Minimum Order: 1; Mounting Type: Surface Mount; Operating Temperature: -65°C ~ 175°C (TJ); Package / Case: DO-219AB; Packaging: TapeAndReel; PartId: 5530; Part Status: Active; Price: 0.10; Series: -; Supplier 1: DigiKey; Supplier Part Number 1: SMF36A-E3-08CT-ND; Supplier Device Package: SMF; Voltage - Clamping (Max) @ Ipp: 58.1V; Voltage - Reverse Standoff (Typ): 36V
footprint SMF DO-219AB
pins: 1, 2

## SMF36A-TP
designator D?
TVS DIODE 36V 58.1V SOD123FL; Manufacturer: Micro Commercial Co; Current - Peak Pulse (10/1000µs): 3.4A; Power Line Protection: No; Power - Peak Pulse: 200W; Type: Zener; Unidirectional Channels: 1; Voltage - Breakdown (Min): 40V; Part Number: SMF36A-TP; Applications: General Purpose; ComponentLink1Description: Datasheet; ComponentLink1URL: https://www.mccsemi.com/pdf/Products/SMF5.0-170(SOD-123FL)-V2.pdf; ComponentLink2Description: DigiKey Link; ComponentLink2URL: http://digikey.com/product-detail/en/micro-commercial-co/SMF36A-TP/SMF36A-TPMSCT-ND/5114022; LastUpdated: 9/2/2020 1:28:37 AM; Lifecycle Status: Active; Minimum Order: 1; Mounting Type: Surface Mount; Operating Temperature: -65°C ~ 175°C (TA); Package / Case: SOD-123F; Packaging: TapeAndReel; PartId: 10172; Part Status: Active; Price: 0.09; Series: -; Supplier 1: DigiKey; Supplier Part Number 1: SMF36A-TPMSCT-ND; Supplier Device Package: SOD-123FL; Voltage - Clamping (Max) @ Ipp: 58.1V; Voltage - Reverse Standoff (Typ): 36V
footprint SOD123F
pins: 1, 2

## SMF36AHRVG
designator D?
DIODE, TVS, UNIDIRECTIONAL; Manufacturer: Taiwan Semiconductor Corporation; Current - Peak Pulse (10/1000µs): 3.4A; Power Line Protection: No; Power - Peak Pulse: 200W; Type: Zener; Unidirectional Channels: 1; Voltage - Breakdown (Min): 40V; Voltage - Clamping (Max) @ Ipp: 58.1V; Voltage - Reverse Standoff (Typ): 36V; Part Number: SMF36AHRVG; Applications: Automotive; ComponentLink1Description: Datasheet; ComponentLink1URL: https://www.taiwansemi.com/products/datasheet/SMF5.0A%20SERIES_B1709.pdf; ComponentLink2Description: DigiKey Link; ComponentLink2URL: http://digikey.com/product-detail/en/taiwan-semiconductor-corporation/SMF36AHRVG/SMF36AHRVGCT-ND/8600432; LastUpdated: 9/2/2020 1:28:40 AM; Lifecycle Status: Active; Minimum Order: 1; Mounting Type: Surface Mount; Operating Temperature: -55°C ~ 175°C (TJ); Package / Case: SOD-123W; Packaging: TapeAndReel; PartId: 10297; Part Status: Active; Price: 0.09; Series: Automotive, AEC-Q101; Supplier 1: DigiKey; Supplier Part Number 1: SMF36AHRVGCT-ND; Supplier Device Package: SOD-123W
footprint SOD-123W
pins: 1, 2